# Altium integrated library Cypress Clocks & Buffers Clock Distribution.IntLib: 321 symbols (part 18 of 25)
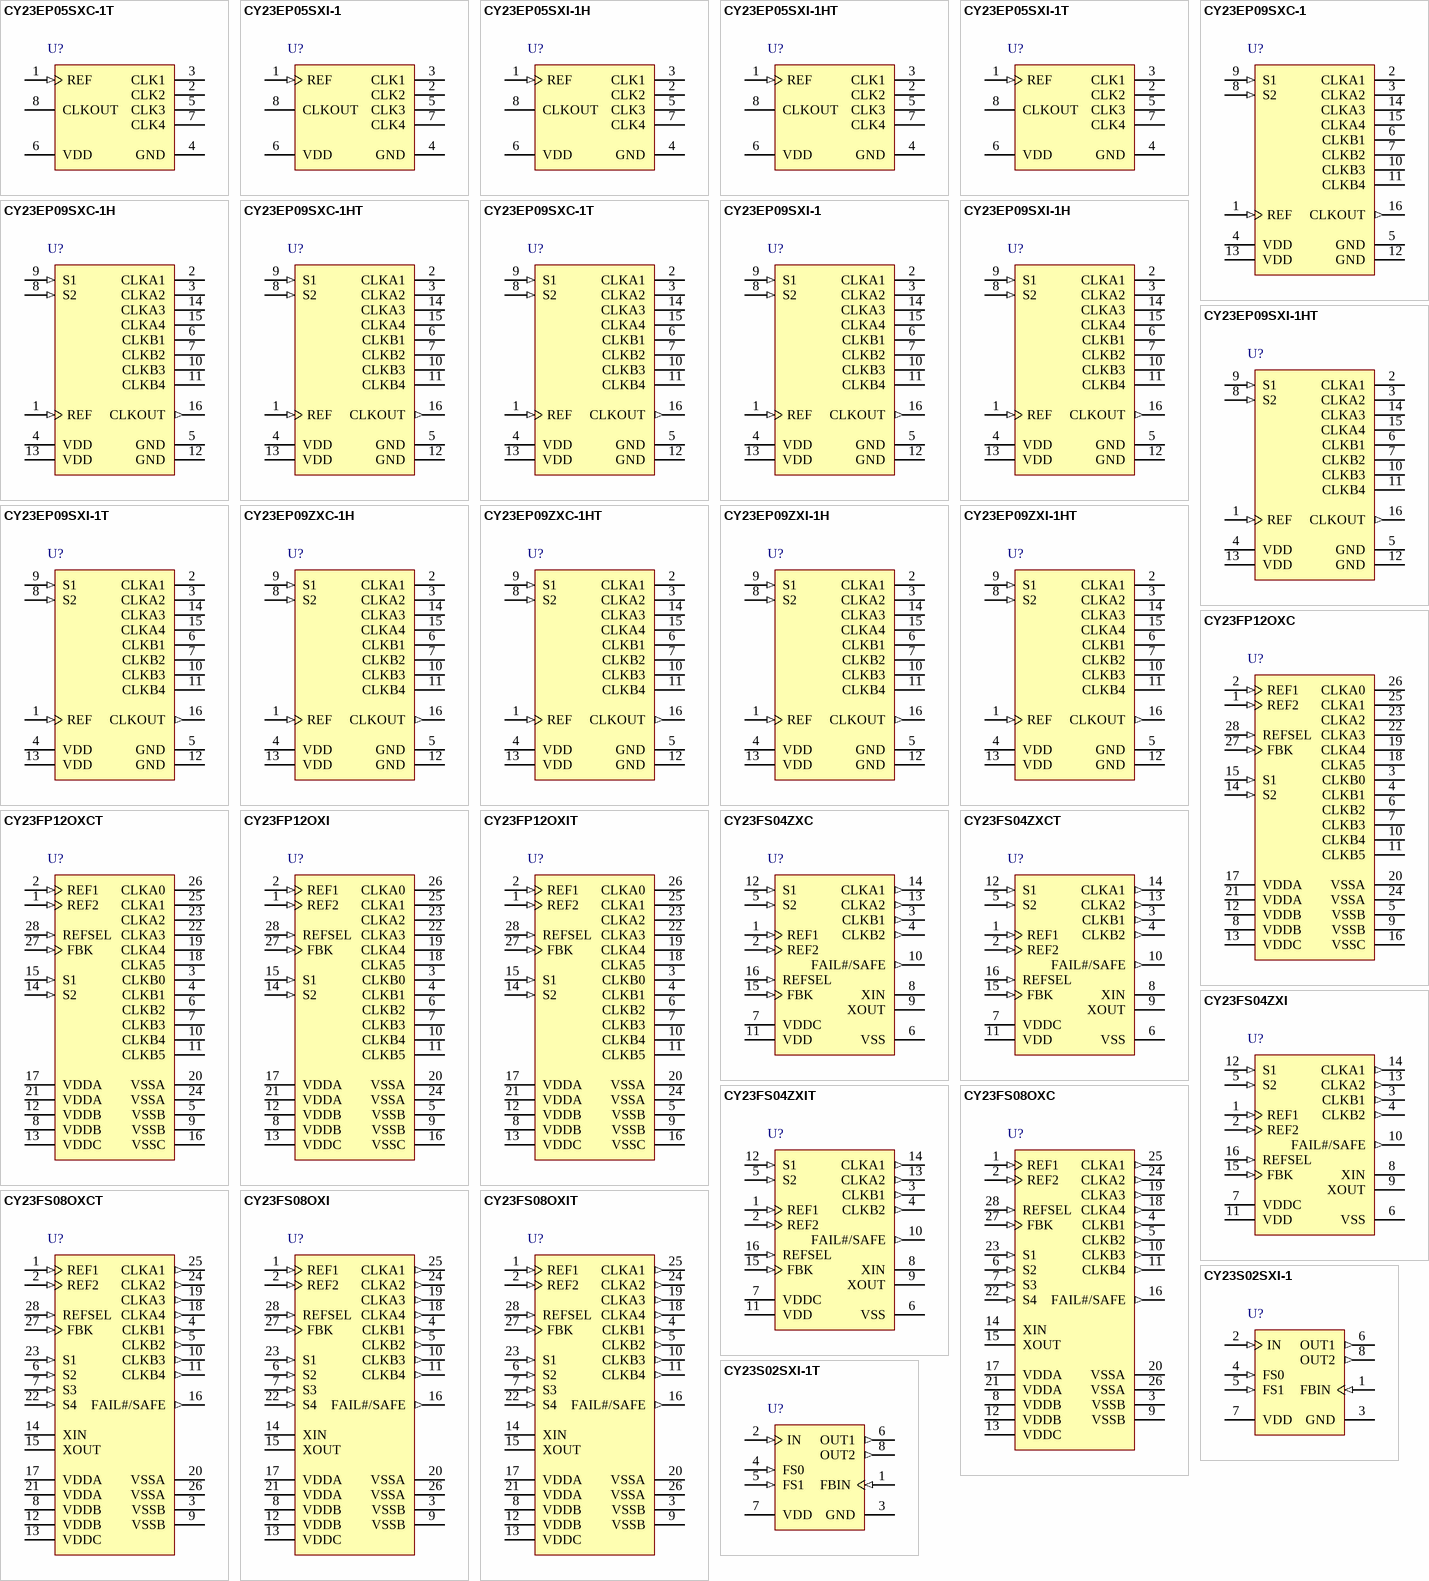
[diagram p33: symbols CY23EP05SXC-1T to CY23S02SXI-1T]

## CY23FS04ZXCT
designator U?
Failsafe(TM) Zero Delay Buffer, 2.5 / 3.3 V, 4 Outputs, 4.17 to 166.7 MHz, 0 to 70 degC, 16-Pin TSSOP (ZX16), Tape and Reel; Manufacturer: Cypress; PartNumber: CY23FS04ZXCT; Input Frequency Max. (MHz): 166.7; Input Frequency Min. (MHz): 4.17; Max. Operating Voltage (V): 3.465; Min. Operating Voltage (V): 2.375; No. of Outputs: 4; DatasheetVersion: Rev. *G; PackageVersion: Rev. *D, 09/2011; PackageReference: ZX16; PackageDescription: 16-Pin Thin Shrink Small Outline Package, Body 5 x 4.4 mm, Pitch 0.65 mm; Supplier 1: Digi-Key; Supplier Part Number 1: CY23FS04ZXCT-ND; Supplier 2: Mouser; Supplier Part Number 2: 727-CY23FS04ZXCT; Max. Operating Temp. (degreesC): 70; Min. Operating Temp. (degreesC): 0; Output Frequency Max. (MHz): 166.7; Output Frequency Min. (MHz): 4.17; Packing: Tape and Reel; RoHS: Pb-Free; Mounting Technology: Surface Mount; Code_JEDEC: MO-153; ComponentLink1Description: Manufacturer URL; ComponentLink1URL: http://www.cypress.com/; ComponentLink2Description: Datasheet; ComponentLink2URL: http://www.cypress.com/?docID=30627; ComponentLink3Description: Package Specification; ComponentLink3URL: http://www.cypress.com/?docID=39143
footprint CYP-ZX16_N (SOP, 16-Leads, Body 5.1x4.5mm, Pitch 0.65mm, IPC Medium Density)
footprint CYP-ZX16_L (SOP, 16-Leads, Body 5.1x4.5mm, Pitch 0.65mm, IPC High Density)
footprint CYP-ZX16_M (SOP, 16-Leads, Body 5.1x4.5mm, Pitch 0.65mm, IPC Low Density)
pins: 1 REF1 (in) "Reference clock inputs. 5 V tolerant.", 2 REF2 (in) "Reference clock inputs. 5 V tolerant.", 3 CLKB1 (out) "Bank B clock outputs.", 4 CLKB2 (out) "Bank B clock outputs.", 5 S2 (in) "Frequency select pins and PLL and DCXO bypass mode", 6 VSS (power) "Ground", 7 VDDC (power) "3.3 V power supply", 8 XIN "Reference crystal input.", 9 XOUT "Reference crystal output.", 10 FAIL#/SAFE (out) "Valid reference indicator. A high level indicates a valid reference input.", 11 VDD (power) "2.5 V or 3.3 V power supply.", 12 S1 (in) "Frequency select pins and PLL and DCXO bypass mode", 13 CLKA2 (out) "Bank A clock outputs", 14 CLKA1 (out) "Bank A clock outputs", 15 FBK (in) "Feedback input to the PLL", 16 REFSEL (in) "Reference select. Selects the active reference clock from either REF1 or REF2. REFSEL = 1, REF1 is selected; REFSEL = 0, REF2 is selected."

## CY23FS04ZXI
designator U?
Failsafe(TM) Zero Delay Buffer, 2.5 / 3.3 V, 4 Outputs, 4.17 to 166.7 MHz, -40 to 85 degC, 16-Pin TSSOP (ZX16), Tube; Manufacturer: Cypress; PartNumber: CY23FS04ZXI; Input Frequency Max. (MHz): 166.7; Input Frequency Min. (MHz): 4.17; Max. Operating Voltage (V): 3.465; Min. Operating Voltage (V): 2.375; No. of Outputs: 4; DatasheetVersion: Rev. *G; PackageVersion: Rev. *D, 09/2011; PackageReference: ZX16; PackageDescription: 16-Pin Thin Shrink Small Outline Package, Body 5 x 4.4 mm, Pitch 0.65 mm; Supplier 1: Digi-Key; Supplier Part Number 1: 428-2899-5-ND; Supplier 2: Newark; Supplier Part Number 2: 19M2092; Supplier 3: Mouser; Supplier Part Number 3: 727-CY23FS04ZXI; Max. Operating Temp. (degreesC): 85; Min. Operating Temp. (degreesC): -40; Output Frequency Max. (MHz): 166.7; Output Frequency Min. (MHz): 4.17; Packing: Tube; RoHS: Pb-Free; Mounting Technology: Surface Mount; Code_JEDEC: MO-153; ComponentLink1Description: Manufacturer URL; ComponentLink1URL: http://www.cypress.com/; ComponentLink2Description: Datasheet; ComponentLink2URL: http://www.cypress.com/?docID=30627; ComponentLink3Description: Package Specification; ComponentLink3URL: http://www.cypress.com/?docID=39143
footprint CYP-ZX16_N (SOP, 16-Leads, Body 5.1x4.5mm, Pitch 0.65mm, IPC Medium Density)
footprint CYP-ZX16_L (SOP, 16-Leads, Body 5.1x4.5mm, Pitch 0.65mm, IPC High Density)
footprint CYP-ZX16_M (SOP, 16-Leads, Body 5.1x4.5mm, Pitch 0.65mm, IPC Low Density)
pins: 1 REF1 (in) "Reference clock inputs. 5 V tolerant.", 2 REF2 (in) "Reference clock inputs. 5 V tolerant.", 3 CLKB1 (out) "Bank B clock outputs.", 4 CLKB2 (out) "Bank B clock outputs.", 5 S2 (in) "Frequency select pins and PLL and DCXO bypass mode", 6 VSS (power) "Ground", 7 VDDC (power) "3.3 V power supply", 8 XIN "Reference crystal input.", 9 XOUT "Reference crystal output.", 10 FAIL#/SAFE (out) "Valid reference indicator. A high level indicates a valid reference input.", 11 VDD (power) "2.5 V or 3.3 V power supply.", 12 S1 (in) "Frequency select pins and PLL and DCXO bypass mode", 13 CLKA2 (out) "Bank A clock outputs", 14 CLKA1 (out) "Bank A clock outputs", 15 FBK (in) "Feedback input to the PLL", 16 REFSEL (in) "Reference select. Selects the active reference clock from either REF1 or REF2. REFSEL = 1, REF1 is selected; REFSEL = 0, REF2 is selected."

## CY23FS04ZXIT
designator U?
Failsafe(TM) Zero Delay Buffer, 2.5 / 3.3 V, 4 Outputs, 4.17 to 166.7 MHz, -40 to 85 degC, 16-Pin TSSOP (ZX16), Tape and Reel; Manufacturer: Cypress; PartNumber: CY23FS04ZXIT; Input Frequency Max. (MHz): 166.7; Input Frequency Min. (MHz): 4.17; Max. Operating Voltage (V): 3.465; Min. Operating Voltage (V): 2.375; No. of Outputs: 4; DatasheetVersion: Rev. *G; PackageVersion: Rev. *D, 09/2011; PackageReference: ZX16; PackageDescription: 16-Pin Thin Shrink Small Outline Package, Body 5 x 4.4 mm, Pitch 0.65 mm; Supplier 1: Digi-Key; Supplier Part Number 1: CY23FS04ZXIT-ND; Supplier 2: Newark; Supplier Part Number 2: 19M2094; Supplier 3: Mouser; Supplier Part Number 3: 727-CY23FS04ZXIT; Max. Operating Temp. (degreesC): 85; Min. Operating Temp. (degreesC): -40; Output Frequency Max. (MHz): 166.7; Output Frequency Min. (MHz): 4.17; Packing: Tape and Reel; RoHS: Pb-Free; Mounting Technology: Surface Mount; Code_JEDEC: MO-153; ComponentLink1Description: Manufacturer URL; ComponentLink1URL: http://www.cypress.com/; ComponentLink2Description: Datasheet; ComponentLink2URL: http://www.cypress.com/?docID=30627; ComponentLink3Description: Package Specification; ComponentLink3URL: http://www.cypress.com/?docID=39143
footprint CYP-ZX16_N (SOP, 16-Leads, Body 5.1x4.5mm, Pitch 0.65mm, IPC Medium Density)
footprint CYP-ZX16_L (SOP, 16-Leads, Body 5.1x4.5mm, Pitch 0.65mm, IPC High Density)
footprint CYP-ZX16_M (SOP, 16-Leads, Body 5.1x4.5mm, Pitch 0.65mm, IPC Low Density)
pins: 1 REF1 (in) "Reference clock inputs. 5 V tolerant.", 2 REF2 (in) "Reference clock inputs. 5 V tolerant.", 3 CLKB1 (out) "Bank B clock outputs.", 4 CLKB2 (out) "Bank B clock outputs.", 5 S2 (in) "Frequency select pins and PLL and DCXO bypass mode", 6 VSS (power) "Ground", 7 VDDC (power) "3.3 V power supply", 8 XIN "Reference crystal input.", 9 XOUT "Reference crystal output.", 10 FAIL#/SAFE (out) "Valid reference indicator. A high level indicates a valid reference input.", 11 VDD (power) "2.5 V or 3.3 V power supply.", 12 S1 (in) "Frequency select pins and PLL and DCXO bypass mode", 13 CLKA2 (out) "Bank A clock outputs", 14 CLKA1 (out) "Bank A clock outputs", 15 FBK (in) "Feedback input to the PLL", 16 REFSEL (in) "Reference select. Selects the active reference clock from either REF1 or REF2. REFSEL = 1, REF1 is selected; REFSEL = 0, REF2 is selected."

## CY23FS08OXC
designator U?
Failsafe(TM) Zero Delay Buffer, 2.5 / 3.3 V, 8 Outputs, 1.7 to 200 MHz, 0 to 70 degC, 28-Pin SSOP (OX28), Tube; Manufacturer: Cypress; PartNumber: CY23FS08OXC; Input Frequency Max. (MHz): 200; Input Frequency Min. (MHz): 1; Max. Operating Voltage (V): 3.465; Min. Operating Voltage (V): 3.135; No. of Outputs: 8; Output Frequency Min. (MHz): 1.7; DatasheetVersion: Rev. *H; PackageVersion: Rev. *C, 10/2001; PackageReference: OX28; PackageDescription: 28-Pin SSOP, Body 10.2 x 5.3 mm, Pitch 0.65 mm; Supplier 1: Digi-Key; Supplier Part Number 1: CY23FS08OXC-ND; Supplier 2: Mouser; Supplier Part Number 2: 727-CY23FS08OXC; Max. Operating Temp. (degreesC): 70; Min. Operating Temp. (degreesC): 0; Output Frequency Max. (MHz): 200; Packing: Tube; RoHS: Pb-Free; Mounting Technology: Surface Mount; ComponentLink1Description: Manufacturer URL; ComponentLink1URL: http://www.cypress.com/; ComponentLink2Description: Datasheet; ComponentLink2URL: http://www.cypress.com/?docID=48077; ComponentLink3Description: Package Specification; ComponentLink3URL: http://www.cypress.com/?docID=1371
footprint CYP-OX28_N (SOP, 28-Leads, Body 10.4x5.6mm, Pitch 0.65mm, IPC Medium Density)
footprint CYP-OX28_L (SOP, 28-Leads, Body 10.4x5.6mm, Pitch 0.65mm, IPC High Density)
footprint CYP-OX28_M (SOP, 28-Leads, Body 10.4x5.6mm, Pitch 0.65mm, IPC Low Density)
pins: 1 REF1 (in) "Reference clock inputs. 5 V tolerant.", 2 REF2 (in) "Reference clock inputs. 5 V tolerant.", 3 VSSB (power) "Ground.", 4 CLKB1 (out) "Bank B clock outputs.", 5 CLKB2 (out) "Bank B clock outputs.", 6 S2 (in) "Frequency select pins/PLL and DCXO bypass.", 7 S3 (in) "Frequency select pins/PLL and DCXO bypass.", 8 VDDB (power) "2.5 V or 3.3 V power supply for Bank B outputs.", 9 VSSB (power) "Ground.", 10 CLKB3 (out) "Bank B clock outputs.", 11 CLKB4 (out) "Bank B clock outputs.", 12 VDDB (power) "2.5 V or 3.3 V power supply for Bank B outputs.", 13 VDDC (power) "3.3 V power supply for the internal circuitry", 14 XIN "Reference crystal input.", 15 XOUT "Reference crystal output.", 16 FAIL#/SAFE (out) "Valid reference indicator. A high level indicates a valid reference input.", 17 VDDA (power) "2.5 V or 3.3 V power supply for Bank A outputs.", 18 CLKA4 (out) "Bank A clock outputs.", 19 CLKA3 (out) "Bank A clock outputs.", 20 VSSA (power) "Ground.", 21 VDDA (power) "2.5 V or 3.3 V power supply for Bank A outputs.", 22 S4 (in) "Frequency select pins/PLL and DCXO bypass.", 23 S1 (in) "Frequency select pins/PLL and DCXO bypass.", 24 CLKA2 (out) "Bank A clock outputs.", 25 CLKA1 (out) "Bank A clock outputs.", 26 VSSA (power) "Ground.", 27 FBK (in) "Feedback input to the PLL", 28 REFSEL (in) "Reference select. Selects the active reference clock from either REF1 or REF2. When REFSEL = 1, REF1 is selected. When REFSEL = 0, REF2 is selected."

## CY23FS08OXCT
designator U?
Failsafe(TM) Zero Delay Buffer, 2.5 / 3.3 V, 8 Outputs, 1.7 to 200 MHz, 0 to 70 degC, 28-Pin SSOP (OX28), Tape and Reel; Manufacturer: Cypress; PartNumber: CY23FS08OXCT; Input Frequency Max. (MHz): 200; Input Frequency Min. (MHz): 1; Max. Operating Voltage (V): 3.465; Min. Operating Voltage (V): 3.135; No. of Outputs: 8; Output Frequency Min. (MHz): 1.7; DatasheetVersion: Rev. *H; PackageVersion: Rev. *C, 10/2001; PackageReference: OX28; PackageDescription: 28-Pin SSOP, Body 10.2 x 5.3 mm, Pitch 0.65 mm; Supplier 1: Mouser; Supplier Part Number 1: 727-CY23FS08OXCT; Max. Operating Temp. (degreesC): 70; Min. Operating Temp. (degreesC): 0; Output Frequency Max. (MHz): 200; Packing: Tape and Reel; RoHS: Pb-Free; Mounting Technology: Surface Mount; ComponentLink1Description: Manufacturer URL; ComponentLink1URL: http://www.cypress.com/; ComponentLink2Description: Datasheet; ComponentLink2URL: http://www.cypress.com/?docID=48077; ComponentLink3Description: Package Specification; ComponentLink3URL: http://www.cypress.com/?docID=1371
footprint CYP-OX28_N (SOP, 28-Leads, Body 10.4x5.6mm, Pitch 0.65mm, IPC Medium Density)
footprint CYP-OX28_L (SOP, 28-Leads, Body 10.4x5.6mm, Pitch 0.65mm, IPC High Density)
footprint CYP-OX28_M (SOP, 28-Leads, Body 10.4x5.6mm, Pitch 0.65mm, IPC Low Density)
pins: 1 REF1 (in) "Reference clock inputs. 5 V tolerant.", 2 REF2 (in) "Reference clock inputs. 5 V tolerant.", 3 VSSB (power) "Ground.", 4 CLKB1 (out) "Bank B clock outputs.", 5 CLKB2 (out) "Bank B clock outputs.", 6 S2 (in) "Frequency select pins/PLL and DCXO bypass.", 7 S3 (in) "Frequency select pins/PLL and DCXO bypass.", 8 VDDB (power) "2.5 V or 3.3 V power supply for Bank B outputs.", 9 VSSB (power) "Ground.", 10 CLKB3 (out) "Bank B clock outputs.", 11 CLKB4 (out) "Bank B clock outputs.", 12 VDDB (power) "2.5 V or 3.3 V power supply for Bank B outputs.", 13 VDDC (power) "3.3 V power supply for the internal circuitry", 14 XIN "Reference crystal input.", 15 XOUT "Reference crystal output.", 16 FAIL#/SAFE (out) "Valid reference indicator. A high level indicates a valid reference input.", 17 VDDA (power) "2.5 V or 3.3 V power supply for Bank A outputs.", 18 CLKA4 (out) "Bank A clock outputs.", 19 CLKA3 (out) "Bank A clock outputs.", 20 VSSA (power) "Ground.", 21 VDDA (power) "2.5 V or 3.3 V power supply for Bank A outputs.", 22 S4 (in) "Frequency select pins/PLL and DCXO bypass.", 23 S1 (in) "Frequency select pins/PLL and DCXO bypass.", 24 CLKA2 (out) "Bank A clock outputs.", 25 CLKA1 (out) "Bank A clock outputs.", 26 VSSA (power) "Ground.", 27 FBK (in) "Feedback input to the PLL", 28 REFSEL (in) "Reference select. Selects the active reference clock from either REF1 or REF2. When REFSEL = 1, REF1 is selected. When REFSEL = 0, REF2 is selected."

## CY23FS08OXI
designator U?
Failsafe(TM) Zero Delay Buffer, 2.5 / 3.3 V, 8 Outputs, 1.7 to 166.67 MHz, -40 to 85 degC, 28-Pin SSOP (OX28), Tube; Manufacturer: Cypress; PartNumber: CY23FS08OXI; Input Frequency Max. (MHz): 200; Input Frequency Min. (MHz): 1; Max. Operating Voltage (V): 3.465; Min. Operating Voltage (V): 3.135; No. of Outputs: 8; Output Frequency Max. (MHz): 166.67; Output Frequency Min. (MHz): 1.7; DatasheetVersion: Rev. *H; PackageVersion: Rev. *C, 10/2001; PackageReference: OX28; PackageDescription: 28-Pin SSOP, Body 10.2 x 5.3 mm, Pitch 0.65 mm; Supplier 1: Digi-Key; Supplier Part Number 1: CY23FS08OXI-ND; Supplier 2: Mouser; Supplier Part Number 2: 727-CY23FS08OXI; Max. Operating Temp. (degreesC): 85; Min. Operating Temp. (degreesC): -40; Packing: Tube; RoHS: Pb-Free; Mounting Technology: Surface Mount; ComponentLink1Description: Manufacturer URL; ComponentLink1URL: http://www.cypress.com/; ComponentLink2Description: Datasheet; ComponentLink2URL: http://www.cypress.com/?docID=48077; ComponentLink3Description: Package Specification; ComponentLink3URL: http://www.cypress.com/?docID=1371
footprint CYP-OX28_N (SOP, 28-Leads, Body 10.4x5.6mm, Pitch 0.65mm, IPC Medium Density)
footprint CYP-OX28_L (SOP, 28-Leads, Body 10.4x5.6mm, Pitch 0.65mm, IPC High Density)
footprint CYP-OX28_M (SOP, 28-Leads, Body 10.4x5.6mm, Pitch 0.65mm, IPC Low Density)
pins: 1 REF1 (in) "Reference clock inputs. 5 V tolerant.", 2 REF2 (in) "Reference clock inputs. 5 V tolerant.", 3 VSSB (power) "Ground.", 4 CLKB1 (out) "Bank B clock outputs.", 5 CLKB2 (out) "Bank B clock outputs.", 6 S2 (in) "Frequency select pins/PLL and DCXO bypass.", 7 S3 (in) "Frequency select pins/PLL and DCXO bypass.", 8 VDDB (power) "2.5 V or 3.3 V power supply for Bank B outputs.", 9 VSSB (power) "Ground.", 10 CLKB3 (out) "Bank B clock outputs.", 11 CLKB4 (out) "Bank B clock outputs.", 12 VDDB (power) "2.5 V or 3.3 V power supply for Bank B outputs.", 13 VDDC (power) "3.3 V power supply for the internal circuitry", 14 XIN "Reference crystal input.", 15 XOUT "Reference crystal output.", 16 FAIL#/SAFE (out) "Valid reference indicator. A high level indicates a valid reference input.", 17 VDDA (power) "2.5 V or 3.3 V power supply for Bank A outputs.", 18 CLKA4 (out) "Bank A clock outputs.", 19 CLKA3 (out) "Bank A clock outputs.", 20 VSSA (power) "Ground.", 21 VDDA (power) "2.5 V or 3.3 V power supply for Bank A outputs.", 22 S4 (in) "Frequency select pins/PLL and DCXO bypass.", 23 S1 (in) "Frequency select pins/PLL and DCXO bypass.", 24 CLKA2 (out) "Bank A clock outputs.", 25 CLKA1 (out) "Bank A clock outputs.", 26 VSSA (power) "Ground.", 27 FBK (in) "Feedback input to the PLL", 28 REFSEL (in) "Reference select. Selects the active reference clock from either REF1 or REF2. When REFSEL = 1, REF1 is selected. When REFSEL = 0, REF2 is selected."

## CY23FS08OXIT
designator U?
Failsafe(TM) Zero Delay Buffer, 2.5 / 3.3 V, 8 Outputs, 1.7 to 166.67 MHz, -40 to 85 degC, 28-Pin SSOP (OX28), Tape and Reel; Manufacturer: Cypress; PartNumber: CY23FS08OXIT; Input Frequency Max. (MHz): 200; Input Frequency Min. (MHz): 1; Max. Operating Voltage (V): 3.465; Min. Operating Voltage (V): 3.135; No. of Outputs: 8; Output Frequency Max. (MHz): 166.67; Output Frequency Min. (MHz): 1.7; DatasheetVersion: Rev. *H; PackageVersion: Rev. *C, 10/2001; PackageReference: OX28; PackageDescription: 28-Pin SSOP, Body 10.2 x 5.3 mm, Pitch 0.65 mm; Supplier 1: Mouser; Supplier Part Number 1: 727-CY23FS08OXIT; Max. Operating Temp. (degreesC): 85; Min. Operating Temp. (degreesC): -40; Packing: Tape and Reel; RoHS: Pb-Free; Mounting Technology: Surface Mount; ComponentLink1Description: Manufacturer URL; ComponentLink1URL: http://www.cypress.com/; ComponentLink2Description: Datasheet; ComponentLink2URL: http://www.cypress.com/?docID=48077; ComponentLink3Description: Package Specification; ComponentLink3URL: http://www.cypress.com/?docID=1371
footprint CYP-OX28_N (SOP, 28-Leads, Body 10.4x5.6mm, Pitch 0.65mm, IPC Medium Density)
footprint CYP-OX28_L (SOP, 28-Leads, Body 10.4x5.6mm, Pitch 0.65mm, IPC High Density)
footprint CYP-OX28_M (SOP, 28-Leads, Body 10.4x5.6mm, Pitch 0.65mm, IPC Low Density)
pins: 1 REF1 (in) "Reference clock inputs. 5 V tolerant.", 2 REF2 (in) "Reference clock inputs. 5 V tolerant.", 3 VSSB (power) "Ground.", 4 CLKB1 (out) "Bank B clock outputs.", 5 CLKB2 (out) "Bank B clock outputs.", 6 S2 (in) "Frequency select pins/PLL and DCXO bypass.", 7 S3 (in) "Frequency select pins/PLL and DCXO bypass.", 8 VDDB (power) "2.5 V or 3.3 V power supply for Bank B outputs.", 9 VSSB (power) "Ground.", 10 CLKB3 (out) "Bank B clock outputs.", 11 CLKB4 (out) "Bank B clock outputs.", 12 VDDB (power) "2.5 V or 3.3 V power supply for Bank B outputs.", 13 VDDC (power) "3.3 V power supply for the internal circuitry", 14 XIN "Reference crystal input.", 15 XOUT "Reference crystal output.", 16 FAIL#/SAFE (out) "Valid reference indicator. A high level indicates a valid reference input.", 17 VDDA (power) "2.5 V or 3.3 V power supply for Bank A outputs.", 18 CLKA4 (out) "Bank A clock outputs.", 19 CLKA3 (out) "Bank A clock outputs.", 20 VSSA (power) "Ground.", 21 VDDA (power) "2.5 V or 3.3 V power supply for Bank A outputs.", 22 S4 (in) "Frequency select pins/PLL and DCXO bypass.", 23 S1 (in) "Frequency select pins/PLL and DCXO bypass.", 24 CLKA2 (out) "Bank A clock outputs.", 25 CLKA1 (out) "Bank A clock outputs.", 26 VSSA (power) "Ground.", 27 FBK (in) "Feedback input to the PLL", 28 REFSEL (in) "Reference select. Selects the active reference clock from either REF1 or REF2. When REFSEL = 1, REF1 is selected. When REFSEL = 0, REF2 is selected."

## CY23S02SXI-1
designator U?
Spread Aware(TM), Frequency Multiplier, and Zero Delay Buffer, 3.3 / 5.0 V, 2 Outputs, 20 to 133 MHz, -40 to 85 degC, 8-Pin SOIC (SX8), Tube; Manufacturer: Cypress; PartNumber: CY23S02SXI-1; Input Frequency Max. (MHz): 133; Input Frequency Min. (MHz): 10; Max. Operating Voltage (V): 5.5; Min. Operating Voltage (V): 3.135; No. of Outputs: 2; Output Frequency Min. (MHz): 20; DatasheetVersion: Rev. *E; PackageVersion: Rev. *E, 06/2011; PackageReference: SX8; PackageDescription: 8-pin Lead SOIC-S08, Body 4.89 x 3.90 mm,Pitch 1.27 mm; Supplier 1: Digi-Key; Supplier Part Number 1: CY23S02SXI-1-ND; Supplier 2: Mouser; Supplier Part Number 2: 727-CY23S02SXI-1; Max. Operating Temp. (degreesC): 85; Min. Operating Temp. (degreesC): -40; Output Frequency Max. (MHz): 133; Packing: Tube; RoHS: Pb-Free; Mounting Technology: Surface Mount; Code_JEDEC: MS-012; ComponentLink1Description: Manufacturer URL; ComponentLink1URL: http://www.cypress.com/; ComponentLink2Description: Datasheet; ComponentLink2URL: http://www.cypress.com/?docID=30574; ComponentLink3Description: Package Specification; ComponentLink3URL: http://www.cypress.com/?docID=39153
footprint CYP-SX8_N (SOIC, 8-Leads, Body 4.89x3.90mm, Pitch 1.27mm, IPC Medium Density)
footprint CYP-SX8_L (SOIC, 8-Leads, Body 4.89x3.90mm, Pitch 1.27mm, IPC High Density)
footprint CYP-SX8_M (SOIC, 8-Leads, Body 4.89x3.90mm, Pitch 1.27mm, IPC Low Density)
pins: 1 FBIN (in) "Feedback Input: This input must be fed by one of the outputs (OUT1 or OUT2) to ensure proper functionality. If the trace between FBIN and the output pin being used for feedback is equal in length to the traces between the (See Datasheet)", 2 IN (in) "Reference Input: The output signals will be synchronized to this signal.", 3 GND (power) "Ground Connection: Connect all grounds to the common system ground plane.", 4 FS0 (in) "Function Select Inputs: Tie to VDD (HIGH, 1) or GND (LOW, 0) as desired per Table 1.", 5 FS1 (in) "Function Select Inputs: Tie to VDD (HIGH, 1) or GND (LOW, 0) as desired per Table 1.", 6 OUT1 (out) "Output 1: The frequency of the signal provided by this pin is determined by the feedback signal connected to FBIN, and the FS0:1 inputs (see Table 1).", 7 VDD (power) "Power Connections: Connect to 3.3V or 5V. This pin should be bypassed with a 0.1-uF decoupling capacitor. Use ferrite beats to help reduce noise for optimal jitter performance", 8 OUT2 (out) "Output 2: The frequency of the signal provided by this pin is one-half of the frequency of OUT1. See Table 1."

## CY23S02SXI-1T
designator U?
Spread Aware(TM), Frequency Multiplier, and Zero Delay Buffer, 3.3 / 5.0 V, 2 Outputs, 20 to 133 MHz, -40 to 85 degC, 8-Pin SOIC (SX8), Tape and Reel; Manufacturer: Cypress; PartNumber: CY23S02SXI-1T; Input Frequency Max. (MHz): 133; Input Frequency Min. (MHz): 10; Max. Operating Voltage (V): 5.5; Min. Operating Voltage (V): 3.135; No. of Outputs: 2; Output Frequency Min. (MHz): 20; DatasheetVersion: Rev. *E; PackageVersion: Rev. *E, 06/2011; PackageReference: SX8; PackageDescription: 8-pin Lead SOIC-S08, Body 4.89 x 3.90 mm,Pitch 1.27 mm; Supplier 1: Digi-Key; Supplier Part Number 1: CY23S02SXI-1T-ND; Supplier 2: Mouser; Supplier Part Number 2: 727-CY23S02SXI-1T; Max. Operating Temp. (degreesC): 85; Min. Operating Temp. (degreesC): -40; Output Frequency Max. (MHz): 133; Packing: Tape and Reel; RoHS: Pb-Free; Mounting Technology: Surface Mount; Code_JEDEC: MS-012; ComponentLink1Description: Manufacturer URL; ComponentLink1URL: http://www.cypress.com/; ComponentLink2Description: Datasheet; ComponentLink2URL: http://www.cypress.com/?docID=30574; ComponentLink3Description: Package Specification; ComponentLink3URL: http://www.cypress.com/?docID=39153
footprint CYP-SX8_N (SOIC, 8-Leads, Body 4.89x3.90mm, Pitch 1.27mm, IPC Medium Density)
footprint CYP-SX8_L (SOIC, 8-Leads, Body 4.89x3.90mm, Pitch 1.27mm, IPC High Density)
footprint CYP-SX8_M (SOIC, 8-Leads, Body 4.89x3.90mm, Pitch 1.27mm, IPC Low Density)
pins: 1 FBIN (in) "Feedback Input: This input must be fed by one of the outputs (OUT1 or OUT2) to ensure proper functionality. If the trace between FBIN and the output pin being used for feedback is equal in length to the traces between the (See Datasheet)", 2 IN (in) "Reference Input: The output signals will be synchronized to this signal.", 3 GND (power) "Ground Connection: Connect all grounds to the common system ground plane.", 4 FS0 (in) "Function Select Inputs: Tie to VDD (HIGH, 1) or GND (LOW, 0) as desired per Table 1.", 5 FS1 (in) "Function Select Inputs: Tie to VDD (HIGH, 1) or GND (LOW, 0) as desired per Table 1.", 6 OUT1 (out) "Output 1: The frequency of the signal provided by this pin is determined by the feedback signal connected to FBIN, and the FS0:1 inputs (see Table 1).", 7 VDD (power) "Power Connections: Connect to 3.3V or 5V. This pin should be bypassed with a 0.1-uF decoupling capacitor. Use ferrite beats to help reduce noise for optimal jitter performance", 8 OUT2 (out) "Output 2: The frequency of the signal provided by this pin is one-half of the frequency of OUT1. See Table 1."

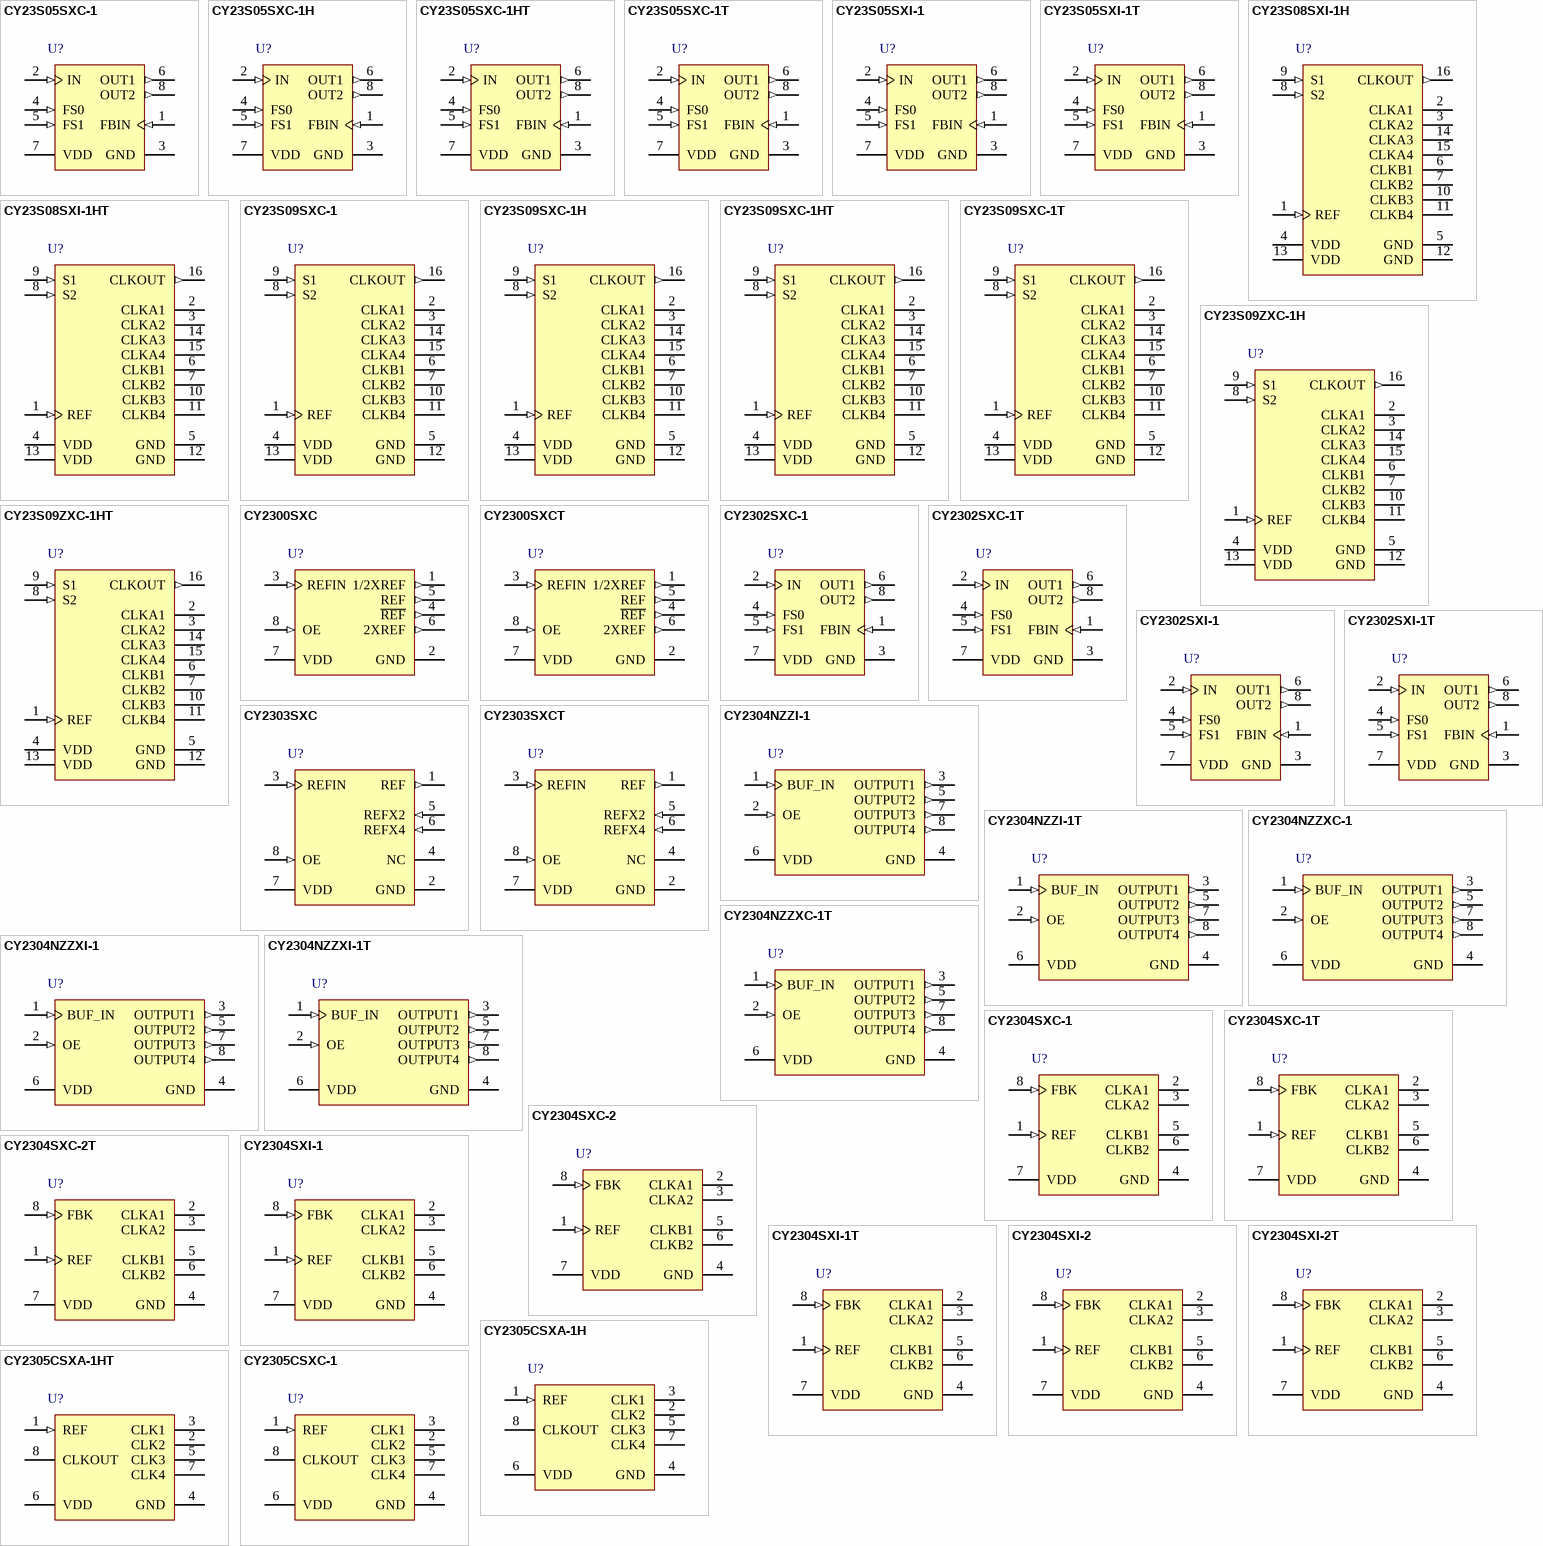
[diagram p11: symbols CY23S05SXC-1 to CY2305CSXC-1]

## CY23S05SXC-1
designator U?
Low Cost Spread Aware Zero Delay Buffer, 3.3 V, 5 Outputs, 10 to 133 MHz, 0 to 70 degC, 8-Pin SOIC (SX8), Tube; Manufacturer: Cypress; PartNumber: CY23S05SXC-1; Input Frequency Max. (MHz): 133; Input Frequency Min. (MHz): 10; Max. Operating Voltage (V): 3.6; Min. Operating Voltage (V): 3; No. of Outputs: 5; DatasheetVersion: Rev. *G; PackageVersion: Rev. *E, 06/2011; PackageReference: SX8; PackageDescription: 8-pin Lead SOIC-S08, Body 4.89 x 3.90 mm,Pitch 1.27 mm; Supplier 1: Digi-Key; Supplier Part Number 1: CY23S05SXC-1-ND; Supplier 2: Mouser; Supplier Part Number 2: 727-CY23S05SXC-1; Max. Operating Temp. (degreesC): 70; Min. Operating Temp. (degreesC): 0; Output Frequency Max. (MHz): 133; Output Frequency Min. (MHz): 10; Packing: Tube; RoHS: Pb-Free; Mounting Technology: Surface Mount; Code_JEDEC: MS-012; ComponentLink1Description: Manufacturer URL; ComponentLink1URL: http://www.cypress.com/; ComponentLink2Description: Datasheet; ComponentLink2URL: http://www.cypress.com/?docID=31676; ComponentLink3Description: Package Specification; ComponentLink3URL: http://www.cypress.com/?docID=39153
footprint CYP-SX8_N (SOIC, 8-Leads, Body 4.89x3.90mm, Pitch 1.27mm, IPC Medium Density)
footprint CYP-SX8_L (SOIC, 8-Leads, Body 4.89x3.90mm, Pitch 1.27mm, IPC High Density)
footprint CYP-SX8_M (SOIC, 8-Leads, Body 4.89x3.90mm, Pitch 1.27mm, IPC Low Density)
pins: 1 FBIN (in) "Feedback Input: This input must be fed by one of the outputs (OUT1 or OUT2) to ensure proper functionality. If the trace between FBIN and the output pin being used for feedback is equal in length to the traces between the (See Datasheet)", 2 IN (in) "Reference Input: The output signals will be synchronized to this signal.", 3 GND (power) "Ground Connection: Connect all grounds to the common system ground plane.", 4 FS0 (in) "Function Select Inputs: Tie to VDD (HIGH, 1) or GND (LOW, 0) as desired per Table 1.", 5 FS1 (in) "Function Select Inputs: Tie to VDD (HIGH, 1) or GND (LOW, 0) as desired per Table 1.", 6 OUT1 (out) "Output 1: The frequency of the signal provided by this pin is determined by the feedback signal connected to FBIN, and the FS0:1 inputs (see Table 1).", 7 VDD (power) "Power Connections: Connect to 3.3V or 5V. This pin should be bypassed with a 0.1-uF decoupling capacitor. Use ferrite beats to help reduce noise for optimal jitter performance", 8 OUT2 (out) "Output 2: The frequency of the signal provided by this pin is one-half of the frequency of OUT1. See Table 1."

## CY23S05SXC-1H
designator U?
Low Cost Spread Aware Zero Delay Buffer, 3.3 V, 5 Outputs, 10 to 133 MHz, 0 to 70 degC, 8-Pin SOIC (SX8), Tape and Reel; Manufacturer: Cypress; PartNumber: CY23S05SXC-1H; Input Frequency Max. (MHz): 133; Input Frequency Min. (MHz): 10; Max. Operating Voltage (V): 3.6; Min. Operating Voltage (V): 3; No. of Outputs: 5; DatasheetVersion: Rev. *G; PackageVersion: Rev. *E, 06/2011; PackageReference: SX8; PackageDescription: 8-pin Lead SOIC-S08, Body 4.89 x 3.90 mm,Pitch 1.27 mm; Supplier 1: Digi-Key; Supplier Part Number 1: 428-2215-5-ND; Supplier 2: Newark; Supplier Part Number 2: 19M5945; Supplier 3: Mouser; Supplier Part Number 3: 727-CY23S05SXC-1H; Max. Operating Temp. (degreesC): 70; Min. Operating Temp. (degreesC): 0; Output Frequency Max. (MHz): 133; Output Frequency Min. (MHz): 10; Packing: Tape and Reel; RoHS: Pb-Free; Mounting Technology: Surface Mount; Code_JEDEC: MS-012; ComponentLink1Description: Manufacturer URL; ComponentLink1URL: http://www.cypress.com/; ComponentLink2Description: Datasheet; ComponentLink2URL: http://www.cypress.com/?docID=31676; ComponentLink3Description: Package Specification; ComponentLink3URL: http://www.cypress.com/?docID=39153
footprint CYP-SX8_N (SOIC, 8-Leads, Body 4.89x3.90mm, Pitch 1.27mm, IPC Medium Density)
footprint CYP-SX8_L (SOIC, 8-Leads, Body 4.89x3.90mm, Pitch 1.27mm, IPC High Density)
footprint CYP-SX8_M (SOIC, 8-Leads, Body 4.89x3.90mm, Pitch 1.27mm, IPC Low Density)
pins: 1 FBIN (in) "Feedback Input: This input must be fed by one of the outputs (OUT1 or OUT2) to ensure proper functionality. If the trace between FBIN and the output pin being used for feedback is equal in length to the traces between the (See Datasheet)", 2 IN (in) "Reference Input: The output signals will be synchronized to this signal.", 3 GND (power) "Ground Connection: Connect all grounds to the common system ground plane.", 4 FS0 (in) "Function Select Inputs: Tie to VDD (HIGH, 1) or GND (LOW, 0) as desired per Table 1.", 5 FS1 (in) "Function Select Inputs: Tie to VDD (HIGH, 1) or GND (LOW, 0) as desired per Table 1.", 6 OUT1 (out) "Output 1: The frequency of the signal provided by this pin is determined by the feedback signal connected to FBIN, and the FS0:1 inputs (see Table 1).", 7 VDD (power) "Power Connections: Connect to 3.3V or 5V. This pin should be bypassed with a 0.1-uF decoupling capacitor. Use ferrite beats to help reduce noise for optimal jitter performance", 8 OUT2 (out) "Output 2: The frequency of the signal provided by this pin is one-half of the frequency of OUT1. See Table 1."

## CY23S05SXC-1HT
designator U?
Low Cost Spread Aware Zero Delay Buffer, 3.3 V, 5 Outputs, 10 to 133 MHz, 0 to 70 degC, 8-Pin SOIC (SX8), Tape and Reel; Manufacturer: Cypress; PartNumber: CY23S05SXC-1HT; Input Frequency Max. (MHz): 133; Input Frequency Min. (MHz): 10; Max. Operating Voltage (V): 3.6; Min. Operating Voltage (V): 3; No. of Outputs: 5; DatasheetVersion: Rev. *G; PackageVersion: Rev. *E, 06/2011; PackageReference: SX8; PackageDescription: 8-pin Lead SOIC-S08, Body 4.89 x 3.90 mm,Pitch 1.27 mm; Supplier 1: Newark; Supplier Part Number 1: 19M5946; Supplier 2: Mouser; Supplier Part Number 2: 727-CY23S05SXC-1HT; Max. Operating Temp. (degreesC): 70; Min. Operating Temp. (degreesC): 0; Output Frequency Max. (MHz): 133; Output Frequency Min. (MHz): 10; Packing: Tape and Reel; RoHS: Pb-Free; Mounting Technology: Surface Mount; Code_JEDEC: MS-012; ComponentLink1Description: Manufacturer URL; ComponentLink1URL: http://www.cypress.com/; ComponentLink2Description: Datasheet; ComponentLink2URL: http://www.cypress.com/?docID=31676; ComponentLink3Description: Package Specification; ComponentLink3URL: http://www.cypress.com/?docID=39153
footprint CYP-SX8_N (SOIC, 8-Leads, Body 4.89x3.90mm, Pitch 1.27mm, IPC Medium Density)
footprint CYP-SX8_L (SOIC, 8-Leads, Body 4.89x3.90mm, Pitch 1.27mm, IPC High Density)
footprint CYP-SX8_M (SOIC, 8-Leads, Body 4.89x3.90mm, Pitch 1.27mm, IPC Low Density)
pins: 1 FBIN (in) "Feedback Input: This input must be fed by one of the outputs (OUT1 or OUT2) to ensure proper functionality. If the trace between FBIN and the output pin being used for feedback is equal in length to the traces between the (See Datasheet)", 2 IN (in) "Reference Input: The output signals will be synchronized to this signal.", 3 GND (power) "Ground Connection: Connect all grounds to the common system ground plane.", 4 FS0 (in) "Function Select Inputs: Tie to VDD (HIGH, 1) or GND (LOW, 0) as desired per Table 1.", 5 FS1 (in) "Function Select Inputs: Tie to VDD (HIGH, 1) or GND (LOW, 0) as desired per Table 1.", 6 OUT1 (out) "Output 1: The frequency of the signal provided by this pin is determined by the feedback signal connected to FBIN, and the FS0:1 inputs (see Table 1).", 7 VDD (power) "Power Connections: Connect to 3.3V or 5V. This pin should be bypassed with a 0.1-uF decoupling capacitor. Use ferrite beats to help reduce noise for optimal jitter performance", 8 OUT2 (out) "Output 2: The frequency of the signal provided by this pin is one-half of the frequency of OUT1. See Table 1."

## CY23S05SXC-1T
designator U?
Low Cost Spread Aware Zero Delay Buffer, 3.3 V, 5 Outputs, 10 to 133 MHz, 0 to 70 degC, 8-Pin SOIC (SX8), Tape and Reel; Manufacturer: Cypress; PartNumber: CY23S05SXC-1T; Input Frequency Max. (MHz): 133; Input Frequency Min. (MHz): 10; Max. Operating Voltage (V): 3.6; Min. Operating Voltage (V): 3; No. of Outputs: 5; DatasheetVersion: Rev. *G; PackageVersion: Rev. *E, 06/2011; PackageReference: SX8; PackageDescription: 8-pin Lead SOIC-S08, Body 4.89 x 3.90 mm,Pitch 1.27 mm; Supplier 1: Mouser; Supplier Part Number 1: 727-CY23S05SXC-1T; Max. Operating Temp. (degreesC): 70; Min. Operating Temp. (degreesC): 0; Output Frequency Max. (MHz): 133; Output Frequency Min. (MHz): 10; Packing: Tape and Reel; RoHS: Pb-Free; Mounting Technology: Surface Mount; Code_JEDEC: MS-012; ComponentLink1Description: Manufacturer URL; ComponentLink1URL: http://www.cypress.com/; ComponentLink2Description: Datasheet; ComponentLink2URL: http://www.cypress.com/?docID=31676; ComponentLink3Description: Package Specification; ComponentLink3URL: http://www.cypress.com/?docID=39153
footprint CYP-SX8_N (SOIC, 8-Leads, Body 4.89x3.90mm, Pitch 1.27mm, IPC Medium Density)
footprint CYP-SX8_L (SOIC, 8-Leads, Body 4.89x3.90mm, Pitch 1.27mm, IPC High Density)
footprint CYP-SX8_M (SOIC, 8-Leads, Body 4.89x3.90mm, Pitch 1.27mm, IPC Low Density)
pins: 1 FBIN (in) "Feedback Input: This input must be fed by one of the outputs (OUT1 or OUT2) to ensure proper functionality. If the trace between FBIN and the output pin being used for feedback is equal in length to the traces between the (See Datasheet)", 2 IN (in) "Reference Input: The output signals will be synchronized to this signal.", 3 GND (power) "Ground Connection: Connect all grounds to the common system ground plane.", 4 FS0 (in) "Function Select Inputs: Tie to VDD (HIGH, 1) or GND (LOW, 0) as desired per Table 1.", 5 FS1 (in) "Function Select Inputs: Tie to VDD (HIGH, 1) or GND (LOW, 0) as desired per Table 1.", 6 OUT1 (out) "Output 1: The frequency of the signal provided by this pin is determined by the feedback signal connected to FBIN, and the FS0:1 inputs (see Table 1).", 7 VDD (power) "Power Connections: Connect to 3.3V or 5V. This pin should be bypassed with a 0.1-uF decoupling capacitor. Use ferrite beats to help reduce noise for optimal jitter performance", 8 OUT2 (out) "Output 2: The frequency of the signal provided by this pin is one-half of the frequency of OUT1. See Table 1."

## CY23S05SXI-1
designator U?
Low Cost Spread Aware Zero Delay Buffer, 3.3 V, 5 Outputs, 10 to 133 MHz, -40 to 85 degC, 8-Pin SOIC (SX8), Tube; Manufacturer: Cypress; PartNumber: CY23S05SXI-1; Input Frequency Max. (MHz): 133; Input Frequency Min. (MHz): 10; Max. Operating Voltage (V): 3.6; Min. Operating Voltage (V): 3; No. of Outputs: 5; DatasheetVersion: Rev. *G; PackageVersion: Rev. *E, 06/2011; PackageReference: SX8; PackageDescription: 8-pin Lead SOIC-S08, Body 4.89 x 3.90 mm,Pitch 1.27 mm; Supplier 1: Digi-Key; Supplier Part Number 1: 428-3055-5-ND; Supplier 2: Newark; Supplier Part Number 2: 74R6163; Supplier 3: Mouser; Supplier Part Number 3: 727-23S05SXI1; Max. Operating Temp. (degreesC): 85; Min. Operating Temp. (degreesC): -40; Output Frequency Max. (MHz): 133; Output Frequency Min. (MHz): 10; Packing: Tube; RoHS: Pb-Free; Mounting Technology: Surface Mount; Code_JEDEC: MS-012; ComponentLink1Description: Manufacturer URL; ComponentLink1URL: http://www.cypress.com/; ComponentLink2Description: Datasheet; ComponentLink2URL: http://www.cypress.com/?docID=31676; ComponentLink3Description: Package Specification; ComponentLink3URL: http://www.cypress.com/?docID=39153
footprint CYP-SX8_N (SOIC, 8-Leads, Body 4.89x3.90mm, Pitch 1.27mm, IPC Medium Density)
footprint CYP-SX8_L (SOIC, 8-Leads, Body 4.89x3.90mm, Pitch 1.27mm, IPC High Density)
footprint CYP-SX8_M (SOIC, 8-Leads, Body 4.89x3.90mm, Pitch 1.27mm, IPC Low Density)
pins: 1 FBIN (in) "Feedback Input: This input must be fed by one of the outputs (OUT1 or OUT2) to ensure proper functionality. If the trace between FBIN and the output pin being used for feedback is equal in length to the traces between the (See Datasheet)", 2 IN (in) "Reference Input: The output signals will be synchronized to this signal.", 3 GND (power) "Ground Connection: Connect all grounds to the common system ground plane.", 4 FS0 (in) "Function Select Inputs: Tie to VDD (HIGH, 1) or GND (LOW, 0) as desired per Table 1.", 5 FS1 (in) "Function Select Inputs: Tie to VDD (HIGH, 1) or GND (LOW, 0) as desired per Table 1.", 6 OUT1 (out) "Output 1: The frequency of the signal provided by this pin is determined by the feedback signal connected to FBIN, and the FS0:1 inputs (see Table 1).", 7 VDD (power) "Power Connections: Connect to 3.3V or 5V. This pin should be bypassed with a 0.1-uF decoupling capacitor. Use ferrite beats to help reduce noise for optimal jitter performance", 8 OUT2 (out) "Output 2: The frequency of the signal provided by this pin is one-half of the frequency of OUT1. See Table 1."

## CY23S05SXI-1T
designator U?
Low Cost Spread Aware Zero Delay Buffer, 3.3 V, 5 Outputs, 10 to 133 MHz, -40 to 85 degC, 8-Pin SOIC (SX8), Tape and Reel; Manufacturer: Cypress; PartNumber: CY23S05SXI-1T; Input Frequency Max. (MHz): 133; Input Frequency Min. (MHz): 10; Max. Operating Voltage (V): 3.6; Min. Operating Voltage (V): 3; No. of Outputs: 5; DatasheetVersion: Rev. *G; PackageVersion: Rev. *E, 06/2011; PackageReference: SX8; PackageDescription: 8-pin Lead SOIC-S08, Body 4.89 x 3.90 mm,Pitch 1.27 mm; Supplier 1: Digi-Key; Supplier Part Number 1: CY23S05SXI-1T-ND; Supplier 2: Mouser; Supplier Part Number 2: 727-23S05SXI1T; Max. Operating Temp. (degreesC): 85; Min. Operating Temp. (degreesC): -40; Output Frequency Max. (MHz): 133; Output Frequency Min. (MHz): 10; Packing: Tape and Reel; RoHS: Pb-Free; Mounting Technology: Surface Mount; Code_JEDEC: MS-012; ComponentLink1Description: Manufacturer URL; ComponentLink1URL: http://www.cypress.com/; ComponentLink2Description: Datasheet; ComponentLink2URL: http://www.cypress.com/?docID=31676; ComponentLink3Description: Package Specification; ComponentLink3URL: http://www.cypress.com/?docID=39153
footprint CYP-SX8_N (SOIC, 8-Leads, Body 4.89x3.90mm, Pitch 1.27mm, IPC Medium Density)
footprint CYP-SX8_L (SOIC, 8-Leads, Body 4.89x3.90mm, Pitch 1.27mm, IPC High Density)
footprint CYP-SX8_M (SOIC, 8-Leads, Body 4.89x3.90mm, Pitch 1.27mm, IPC Low Density)
pins: 1 FBIN (in) "Feedback Input: This input must be fed by one of the outputs (OUT1 or OUT2) to ensure proper functionality. If the trace between FBIN and the output pin being used for feedback is equal in length to the traces between the (See Datasheet)", 2 IN (in) "Reference Input: The output signals will be synchronized to this signal.", 3 GND (power) "Ground Connection: Connect all grounds to the common system ground plane.", 4 FS0 (in) "Function Select Inputs: Tie to VDD (HIGH, 1) or GND (LOW, 0) as desired per Table 1.", 5 FS1 (in) "Function Select Inputs: Tie to VDD (HIGH, 1) or GND (LOW, 0) as desired per Table 1.", 6 OUT1 (out) "Output 1: The frequency of the signal provided by this pin is determined by the feedback signal connected to FBIN, and the FS0:1 inputs (see Table 1).", 7 VDD (power) "Power Connections: Connect to 3.3V or 5V. This pin should be bypassed with a 0.1-uF decoupling capacitor. Use ferrite beats to help reduce noise for optimal jitter performance", 8 OUT2 (out) "Output 2: The frequency of the signal provided by this pin is one-half of the frequency of OUT1. See Table 1."

## CY23S08SXI-1H
designator U?
Zero Delay Buffer, 3.3 V, 8 Outputs, 10 to 133.3 MHz, -40 to 85 degC, 16-Pin SOIC (SX16); Manufacturer: Cypress; PartNumber: CY23S08SXI-1H; Input Frequency Max. (MHz): 140; Input Frequency Min. (MHz): 10; Max. Operating Voltage (V): 3.6; Min. Operating Voltage (V): 3; No. of Outputs: 8; Output Frequency Max. (MHz): 133.3; DatasheetVersion: Rev. *O; PackageVersion: Rev. *E, 09/2012; PackageReference: SX16; PackageDescription: 16-Pin SOIC (150 MIL), Body 9.89 x 3.90 mm, Pitch 1.27 mm; Supplier 1: Digi-Key; Supplier Part Number 1: CY23S08SXI-1H-ND; Supplier 2: Mouser; Supplier Part Number 2: 727-CY23S08SXI-1H; Max. Operating Temp. (degreesC): 85; Min. Operating Temp. (degreesC): -40; Output Frequency Min. (MHz): 10; RoHS: Pb-Free; Mounting Technology: Surface Mount; Code_JEDEC: MS-012; ComponentLink1Description: Manufacturer URL; ComponentLink1URL: http://www.cypress.com/; ComponentLink2Description: Datasheet; ComponentLink2URL: http://www.cypress.com/?docID=46962; ComponentLink3Description: Package Specification; ComponentLink3URL: http://www.cypress.com/?docID=39437
footprint CYP-SX16_N (SOIC, 16-Leads, Body 9.9x3.9mm, Pitch 1.27mm, IPC Medium Density)
footprint CYP-SX16_L (SOIC, 16-Leads, Body 9.9x3.9mm, Pitch 1.27mm, IPC High Density)
footprint CYP-SX16_M (SOIC, 16-Leads, Body 9.9x3.9mm, Pitch 1.27mm, IPC Low Density)
pins: 1 REF (in) "Input reference frequency, 5 V tolerant input", 2 CLKA1 (hiz) "Buffered clock output, Bank A", 3 CLKA2 (hiz) "Buffered clock output, Bank A", 4 VDD (power) "3.3 V supply", 5 GND (power) "Ground", 6 CLKB1 (hiz) "Buffered clock output, Bank B", 7 CLKB2 (hiz) "Buffered clock output, Bank B", 8 S2 (in) "Select input, bit 2", 9 S1 (in) "Select input, bit 1", 10 CLKB3 (hiz) "Buffered clock output, Bank B", 11 CLKB4 (hiz) "Buffered clock output, Bank B", 12 GND (power) "Ground", 13 VDD (power) "3.3 V supply", 14 CLKA3 (hiz) "Buffered clock output, Bank A", 15 CLKA4 (hiz) "Buffered clock output, Bank A", 16 CLKOUT (out) "Buffered output, internal feedback on this pin"

## CY23S08SXI-1HT
designator U?
Zero Delay Buffer, 3.3 V, 8 Outputs, 10 to 133.3 MHz, -40 to 85 degC, 16-Pin SOIC (SX16), Tape and Reel; Manufacturer: Cypress; PartNumber: CY23S08SXI-1HT; Input Frequency Max. (MHz): 140; Input Frequency Min. (MHz): 10; Max. Operating Voltage (V): 3.6; Min. Operating Voltage (V): 3; No. of Outputs: 8; Output Frequency Max. (MHz): 133.3; DatasheetVersion: Rev. *O; PackageVersion: Rev. *E, 09/2012; PackageReference: SX16; PackageDescription: 16-Pin SOIC (150 MIL), Body 9.89 x 3.90 mm, Pitch 1.27 mm; Supplier 1: Digi-Key; Supplier Part Number 1: CY23S08SXI-1HT-ND; Supplier 2: Newark; Supplier Part Number 2: 53M3376; Supplier 3: Mouser; Supplier Part Number 3: 727-CY23S08SXI-1HT; Max. Operating Temp. (degreesC): 85; Min. Operating Temp. (degreesC): -40; Output Frequency Min. (MHz): 10; Packing: Tape and Reel; RoHS: Pb-Free; Mounting Technology: Surface Mount; Code_JEDEC: MS-012; ComponentLink1Description: Manufacturer URL; ComponentLink1URL: http://www.cypress.com/; ComponentLink2Description: Datasheet; ComponentLink2URL: http://www.cypress.com/?docID=46962; ComponentLink3Description: Package Specification; ComponentLink3URL: http://www.cypress.com/?docID=39437
footprint CYP-SX16_N (SOIC, 16-Leads, Body 9.9x3.9mm, Pitch 1.27mm, IPC Medium Density)
footprint CYP-SX16_L (SOIC, 16-Leads, Body 9.9x3.9mm, Pitch 1.27mm, IPC High Density)
footprint CYP-SX16_M (SOIC, 16-Leads, Body 9.9x3.9mm, Pitch 1.27mm, IPC Low Density)
pins: 1 REF (in) "Input reference frequency, 5 V tolerant input", 2 CLKA1 (hiz) "Buffered clock output, Bank A", 3 CLKA2 (hiz) "Buffered clock output, Bank A", 4 VDD (power) "3.3 V supply", 5 GND (power) "Ground", 6 CLKB1 (hiz) "Buffered clock output, Bank B", 7 CLKB2 (hiz) "Buffered clock output, Bank B", 8 S2 (in) "Select input, bit 2", 9 S1 (in) "Select input, bit 1", 10 CLKB3 (hiz) "Buffered clock output, Bank B", 11 CLKB4 (hiz) "Buffered clock output, Bank B", 12 GND (power) "Ground", 13 VDD (power) "3.3 V supply", 14 CLKA3 (hiz) "Buffered clock output, Bank A", 15 CLKA4 (hiz) "Buffered clock output, Bank A", 16 CLKOUT (out) "Buffered output, internal feedback on this pin"

## CY23S09SXC-1
designator U?
Low Cost Spread Aware Zero Delay Buffer, 3.3 V, 9 Outputs, 10 to 133 MHz, 0 to 70 degC, 16-Pin SOIC (SX16), Tube; Manufacturer: Cypress; PartNumber: CY23S09SXC-1; Input Frequency Max. (MHz): 133; Input Frequency Min. (MHz): 10; Max. Operating Voltage (V): 3.6; Min. Operating Voltage (V): 3; No. of Outputs: 9; DatasheetVersion: Rev. *G; PackageVersion: Rev. *E, 09/2012; PackageReference: SX16; PackageDescription: 16-Pin SOIC (150 MIL), Body 9.89 x 3.90 mm, Pitch 1.27 mm; Supplier 1: Digi-Key; Supplier Part Number 1: CY23S09SXC-1-ND; Supplier 2: Newark; Supplier Part Number 2: 19M2108; Supplier 3: Mouser; Supplier Part Number 3: 727-CY23S09SXC-1; Max. Operating Temp. (degreesC): 70; Min. Operating Temp. (degreesC): 0; Output Frequency Max. (MHz): 133; Output Frequency Min. (MHz): 10; Packing: Tube; RoHS: Pb-Free; Mounting Technology: Surface Mount; Code_JEDEC: MS-012; ComponentLink1Description: Manufacturer URL; ComponentLink1URL: http://www.cypress.com/; ComponentLink2Description: Datasheet; ComponentLink2URL: http://www.cypress.com/?docID=31676; ComponentLink3Description: Package Specification; ComponentLink3URL: http://www.cypress.com/?docID=39437
footprint CYP-SX16_N (SOIC, 16-Leads, Body 9.9x3.9mm, Pitch 1.27mm, IPC Medium Density)
footprint CYP-SX16_L (SOIC, 16-Leads, Body 9.9x3.9mm, Pitch 1.27mm, IPC High Density)
footprint CYP-SX16_M (SOIC, 16-Leads, Body 9.9x3.9mm, Pitch 1.27mm, IPC Low Density)
pins: 1 REF (in) "Input reference frequency, 5 V tolerant input", 2 CLKA1 (hiz) "Buffered clock output, Bank A", 3 CLKA2 (hiz) "Buffered clock output, Bank A", 4 VDD (power) "3.3 V supply", 5 GND (power) "Ground", 6 CLKB1 (hiz) "Buffered clock output, Bank B", 7 CLKB2 (hiz) "Buffered clock output, Bank B", 8 S2 (in) "Select input, bit 2", 9 S1 (in) "Select input, bit 1", 10 CLKB3 (hiz) "Buffered clock output, Bank B", 11 CLKB4 (hiz) "Buffered clock output, Bank B", 12 GND (power) "Ground", 13 VDD (power) "3.3 V supply", 14 CLKA3 (hiz) "Buffered clock output, Bank A", 15 CLKA4 (hiz) "Buffered clock output, Bank A", 16 CLKOUT (out) "Buffered output, internal feedback on this pin"

## CY23S09SXC-1H
designator U?
Low Cost Spread Aware Zero Delay Buffer, 3.3 V, 9 Outputs, 10 to 133 MHz, 0 to 70 degC, 16-Pin SOIC (SX16), Tape and Reel; Manufacturer: Cypress; PartNumber: CY23S09SXC-1H; Input Frequency Max. (MHz): 133; Input Frequency Min. (MHz): 10; Max. Operating Voltage (V): 3.6; Min. Operating Voltage (V): 3; No. of Outputs: 9; DatasheetVersion: Rev. *G; PackageVersion: Rev. *E, 09/2012; PackageReference: SX16; PackageDescription: 16-Pin SOIC (150 MIL), Body 9.89 x 3.90 mm, Pitch 1.27 mm; Supplier 1: Digi-Key; Supplier Part Number 1: CY23S09SXC-1H-ND; Supplier 2: Mouser; Supplier Part Number 2: 727-CY23S09SXC-1H; Max. Operating Temp. (degreesC): 70; Min. Operating Temp. (degreesC): 0; Output Frequency Max. (MHz): 133; Output Frequency Min. (MHz): 10; Packing: Tape and Reel; RoHS: Pb-Free; Mounting Technology: Surface Mount; Code_JEDEC: MS-012; ComponentLink1Description: Manufacturer URL; ComponentLink1URL: http://www.cypress.com/; ComponentLink2Description: Datasheet; ComponentLink2URL: http://www.cypress.com/?docID=31676; ComponentLink3Description: Package Specification; ComponentLink3URL: http://www.cypress.com/?docID=39437
footprint CYP-SX16_N (SOIC, 16-Leads, Body 9.9x3.9mm, Pitch 1.27mm, IPC Medium Density)
footprint CYP-SX16_L (SOIC, 16-Leads, Body 9.9x3.9mm, Pitch 1.27mm, IPC High Density)
footprint CYP-SX16_M (SOIC, 16-Leads, Body 9.9x3.9mm, Pitch 1.27mm, IPC Low Density)
pins: 1 REF (in) "Input reference frequency, 5 V tolerant input", 2 CLKA1 (hiz) "Buffered clock output, Bank A", 3 CLKA2 (hiz) "Buffered clock output, Bank A", 4 VDD (power) "3.3 V supply", 5 GND (power) "Ground", 6 CLKB1 (hiz) "Buffered clock output, Bank B", 7 CLKB2 (hiz) "Buffered clock output, Bank B", 8 S2 (in) "Select input, bit 2", 9 S1 (in) "Select input, bit 1", 10 CLKB3 (hiz) "Buffered clock output, Bank B", 11 CLKB4 (hiz) "Buffered clock output, Bank B", 12 GND (power) "Ground", 13 VDD (power) "3.3 V supply", 14 CLKA3 (hiz) "Buffered clock output, Bank A", 15 CLKA4 (hiz) "Buffered clock output, Bank A", 16 CLKOUT (out) "Buffered output, internal feedback on this pin"

## CY23S09SXC-1HT
designator U?
Low Cost Spread Aware Zero Delay Buffer, 3.3 V, 9 Outputs, 10 to 133 MHz, 0 to 70 degC, 16-Pin SOIC (SX16), Tape and Reel; Manufacturer: Cypress; PartNumber: CY23S09SXC-1HT; Input Frequency Max. (MHz): 133; Input Frequency Min. (MHz): 10; Max. Operating Voltage (V): 3.6; Min. Operating Voltage (V): 3; No. of Outputs: 9; DatasheetVersion: Rev. *G; PackageVersion: Rev. *E, 09/2012; PackageReference: SX16; PackageDescription: 16-Pin SOIC (150 MIL), Body 9.89 x 3.90 mm, Pitch 1.27 mm; Supplier 1: Mouser; Supplier Part Number 1: 727-CY23S09SXC-1HT; Max. Operating Temp. (degreesC): 70; Min. Operating Temp. (degreesC): 0; Output Frequency Max. (MHz): 133; Output Frequency Min. (MHz): 10; Packing: Tape and Reel; RoHS: Pb-Free; Mounting Technology: Surface Mount; Code_JEDEC: MS-012; ComponentLink1Description: Manufacturer URL; ComponentLink1URL: http://www.cypress.com/; ComponentLink2Description: Datasheet; ComponentLink2URL: http://www.cypress.com/?docID=31676; ComponentLink3Description: Package Specification; ComponentLink3URL: http://www.cypress.com/?docID=39437
footprint CYP-SX16_N (SOIC, 16-Leads, Body 9.9x3.9mm, Pitch 1.27mm, IPC Medium Density)
footprint CYP-SX16_L (SOIC, 16-Leads, Body 9.9x3.9mm, Pitch 1.27mm, IPC High Density)
footprint CYP-SX16_M (SOIC, 16-Leads, Body 9.9x3.9mm, Pitch 1.27mm, IPC Low Density)
pins: 1 REF (in) "Input reference frequency, 5 V tolerant input", 2 CLKA1 (hiz) "Buffered clock output, Bank A", 3 CLKA2 (hiz) "Buffered clock output, Bank A", 4 VDD (power) "3.3 V supply", 5 GND (power) "Ground", 6 CLKB1 (hiz) "Buffered clock output, Bank B", 7 CLKB2 (hiz) "Buffered clock output, Bank B", 8 S2 (in) "Select input, bit 2", 9 S1 (in) "Select input, bit 1", 10 CLKB3 (hiz) "Buffered clock output, Bank B", 11 CLKB4 (hiz) "Buffered clock output, Bank B", 12 GND (power) "Ground", 13 VDD (power) "3.3 V supply", 14 CLKA3 (hiz) "Buffered clock output, Bank A", 15 CLKA4 (hiz) "Buffered clock output, Bank A", 16 CLKOUT (out) "Buffered output, internal feedback on this pin"